# EAGLE library part MINIDIN-6 (library myradio)
MINI-DIN 6 Pin Connector KMDLX-8S-BS
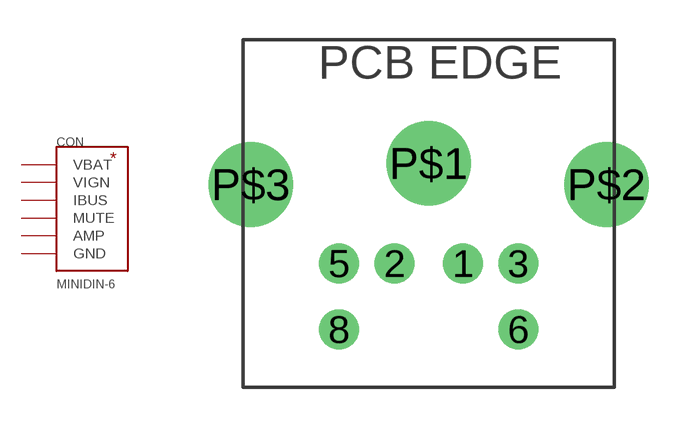
[diagram p3: symbol with the pads of MINIDIN-6; footprint MINIDIN-6]

Designator prefix CON

## MINIDIN-6  [MINIDIN-6]
1  VBAT  sup
2  VIGN  sup
3  IBUS
5  MUTE  out
6  AMP
8  GND  sup

## Footprint MINIDIN-6 (pad centres in mm)
drill 1 round: 1 1.33,-8.54; 2 -1.27,-8.54; 3 3.43,-8.54; 5 -3.37,-8.54; 6 3.43,-11.04; 8 -3.37,-11.04
drill 2.2 round: P$1 0.03,-4.74; P$2 6.78,-5.54; P$3 -6.72,-5.54